# Altium schematic symbol library PWR.Schlib: 1 symbol
Pins are listed as number, name and electrical type; pins without a type are passive.

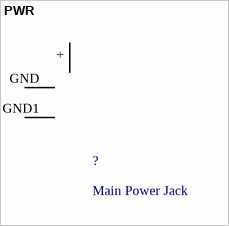
[diagram p0: symbol PWR]

## PWR
designator ?, comment Main Power Jack
footprint SCD-014-A
pins: +, GND, GND1